# EAGLE library part STM32F098RCY7 (library circuit_tree)
IC
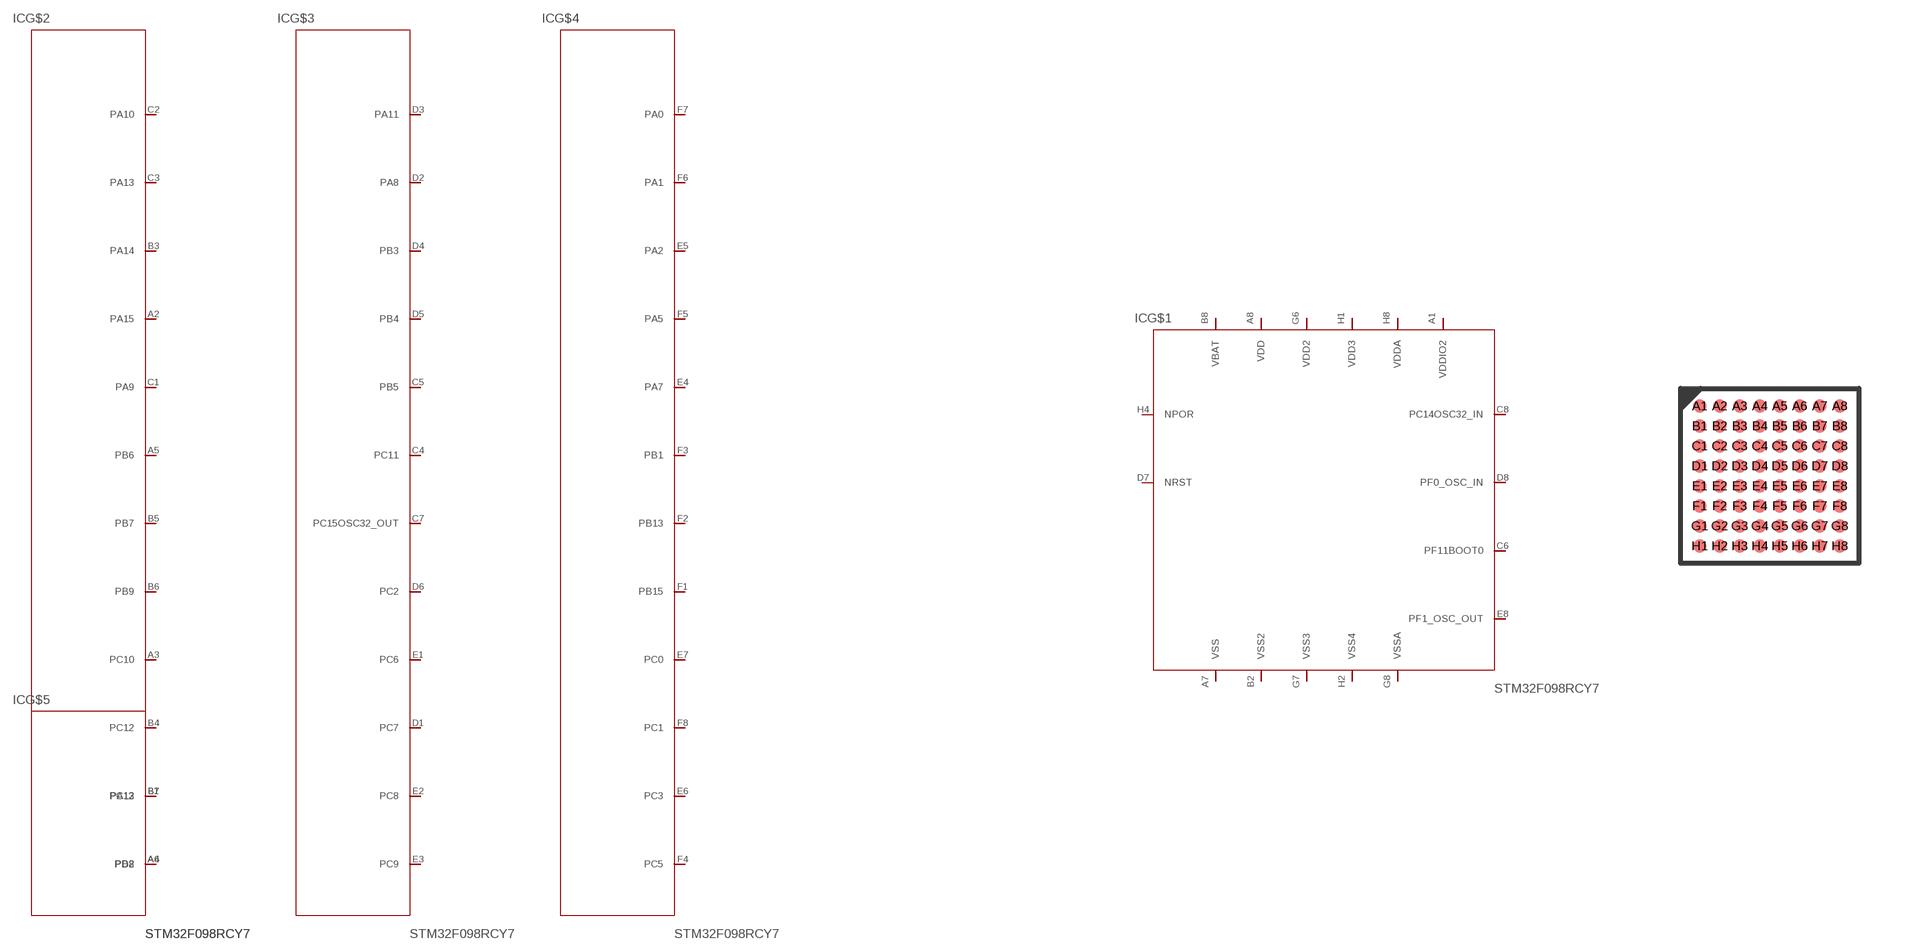
[diagram p4: symbol with the pads of WLCSP64; footprint WLCSP64]

Designator prefix IC; gates G$1=STM32F098RCY7 G$2=STM32F098RCY72 G$3=STM32F098RCY73 G$4=STM32F098RCY74 G$5=STM32F098RCY75

## STM32F098RCY7  [WLCSP64]
A1  G$1:VDDIO2  pas
A2  G$2:PA15  pas
A3  G$2:PC10  pas
A4  G$2:PD2  pas
A5  G$2:PB6  pas
A6  G$5:PB8  pas
A7  G$1:VSS  pas
A8  G$1:VDD  pas
B1  G$5:PA12  pas
B2  G$1:VSS2  pas
B3  G$2:PA14  pas
B4  G$2:PC12  pas
B5  G$2:PB7  pas
B6  G$2:PB9  pas
B7  G$2:PC13  pas
B8  G$1:VBAT  pas
C1  G$2:PA9  pas
C2  G$2:PA10  pas
C3  G$2:PA13  pas
C4  G$3:PC11  pas
C5  G$3:PB5  pas
C6  G$1:PF11BOOT0  pas
C7  G$3:PC15OSC32_OUT  pas
C8  G$1:PC14OSC32_IN  pas
D1  G$3:PC7  pas
D2  G$3:PA8  pas
D3  G$3:PA11  pas
D4  G$3:PB3  pas
D5  G$3:PB4  pas
D6  G$3:PC2  pas
D7  G$1:NRST  pas
D8  G$1:PF0_OSC_IN  pas
E1  G$3:PC6  pas
E2  G$3:PC8  pas
E3  G$3:PC9  pas
E4  G$4:PA7  pas
E5  G$4:PA2  pas
E6  G$4:PC3  pas
E7  G$4:PC0  pas
E8  G$1:PF1_OSC_OUT  pas
F1  G$4:PB15  pas
F2  G$4:PB13  pas
F3  G$4:PB1  pas
F4  G$4:PC5  pas
F5  G$4:PA5  pas
F6  G$4:PA1  pas
F7  G$4:PA0  pas
F8  G$4:PC1  pas
G6  G$1:VDD2  pas
G7  G$1:VSS3  pas
G8  G$1:VSSA  pas
H1  G$1:VDD3  pas
H2  G$1:VSS4  pas
H4  G$1:NPOR  pas
H8  G$1:VDDA  pas

## Footprint WLCSP64 (pad centres in mm)
WLCSP64 4.466 x 4.395 mm, 8 x 8-pin 0.5 mm pitch wafer-level chip-scale package
smd 0.34 x 0.34: A1 -1.75,1.75; A2 -1.25,1.75; A3 -0.75,1.75; A4 -0.25,1.75; A5 0.25,1.75; A6 0.75,1.75; A7 1.25,1.75; A8 1.75,1.75; B1 -1.75,1.25; B2 -1.25,1.25; B3 -0.75,1.25; B4 -0.25,1.25; B5 0.25,1.25; B6 0.75,1.25; B7 1.25,1.25; B8 1.75,1.25; C1 -1.75,0.75; C2 -1.25,0.75; C3 -0.75,0.75; C4 -0.25,0.75; C5 0.25,0.75; C6 0.75,0.75; C7 1.25,0.75; C8 1.75,0.75; D1 -1.75,0.25; D2 -1.25,0.25; D3 -0.75,0.25; D4 -0.25,0.25; D5 0.25,0.25; D6 0.75,0.25; D7 1.25,0.25; D8 1.75,0.25; E1 -1.75,-0.25; E2 -1.25,-0.25; E3 -0.75,-0.25; E4 -0.25,-0.25; E5 0.25,-0.25; E6 0.75,-0.25; E7 1.25,-0.25; E8 1.75,-0.25; F1 -1.75,-0.75; F2 -1.25,-0.75; F3 -0.75,-0.75; F4 -0.25,-0.75; F5 0.25,-0.75; F6 0.75,-0.75; F7 1.25,-0.75; F8 1.75,-0.75; G1 -1.75,-1.25; G2 -1.25,-1.25; G3 -0.75,-1.25; G4 -0.25,-1.25; G5 0.25,-1.25; G6 0.75,-1.25; G7 1.25,-1.25; G8 1.75,-1.25; H1 -1.75,-1.75; H2 -1.25,-1.75; H3 -0.75,-1.75; H4 -0.25,-1.75; H5 0.25,-1.75; H6 0.75,-1.75; H7 1.25,-1.75; H8 1.75,-1.75